# Altium schematic symbol library Inductors.SchLib: 7 symbols
Pins are listed as number, name and electrical type; pins without a type are passive.

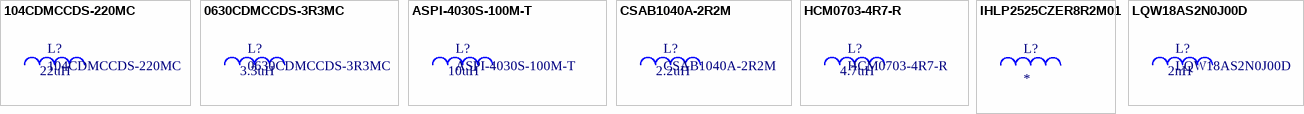
[diagram p0: symbols 104CDMCCDS-220MC to LQW18AS2N0J00D]

## 104CDMCCDS-220MC
designator L?  value 22uH
FIXED IND 22UH 5A 66 MOHM SMD; Precision: 20%; Supplier 1: Digi-Key; Mounted: Yes; Supplier Part Number 1: 308-2498-1-ND; Package / Case: SMD; Current: 5A
footprint Inductor_22UH 5A
pins: 1, 2

## 0630CDMCCDS-3R3MC
designator L?  value 3.3uH
FIXED IND 3.3UH 8.4A 22MOHM SMD; Precision: 20%; Supplier 1: Digi-Key; Mounted: Yes; Supplier Part Number 1: 308-2465-1-ND; Package / Case: SMD; Current: 8.4A
footprint Inductance 3.3uF
pins: 1, 2

## ASPI-4030S-100M-T
designator L?  value 10uH
10 µH Shielded Drum Core, Wirewound Inductor 1.5 A 100mOhm Nonstandard; Current: 1.5A; Precision: 20%; Supplier 1: Digi-Key; Mounted: Yes; Supplier Part Number 1: 535-12314-2-ND; Package / Case: SMD
footprint INDUCTOR_ASPI-4030S-100M
pins: 1, 2

## CSAB1040A-2R2M
designator L?  value 2.2uH
2.2 µH Shielded Molded Inductor 13.2 A 8mOhm Max Nonstandard; Current: 13.2A; Precision: 20%; Supplier 1: Digi-Key; Mounted: Yes; Supplier Part Number 1: 4044-CSAB1040A-2R2MCT-ND; Package / Case: SMD
footprint Inductance 2.2uF
pins: 1, 2

## HCM0703-4R7-R
designator L?  value 4.7uH
4.7 µH Shielded Drum Core, Wirewound Inductor 5.5 A 40mOhm Max Nonstandard; Current: 5.5A; Precision: 20%; Supplier 1: Digi-Key; Mounted: Yes; Supplier Part Number 1: 283-HCM0703-4R7-RCT-ND; Package / Case: SMD
footprint IND_03-4R7-R_EAT-M
pins: 1, 2

## IHLP2525CZER8R2M01
designator L?
8.2µH Shielded Molded Inductor 4 A 68mOhm Max Nonstandard; MF: Vishay / Dale; MP: IHLP2525CZER8R2M01; SnapEDA_Link: https://www.snapeda.com/parts/IHLP2525CZER8R2M01/Dale/view-part/?ref=snap; Package: None; Value: *; Check_prices: https://www.snapeda.com/parts/IHLP2525CZER8R2M01/Dale/view-part/?ref=eda; Supplier Part Number 1: 541-1012-1-ND
footprint IND_IHLP2525CZER8R2M01
pins: 1, 2

## LQW18AS2N0J00D
designator L?  value 2nH
FIXED IND 2.0NH 700MA 0603 5% SMD; Supplier 1: Digi-Key; Mounted: Yes; Supplier Part Number 1: 490-LQW18AS2N0J00DCT-ND; Package / Case: SMD; Current: 700mA; Precision: 5%
footprint RESISTOR-0603 (Metric 1608, EIA 0603 Drawn per Yageo "Chip resistors Mounting" rev 10)
pins: 1, 2